# Altium integrated library Interface project.IntLib: 9 symbols
Pins are listed as number, name and electrical type; pins without a type are passive.

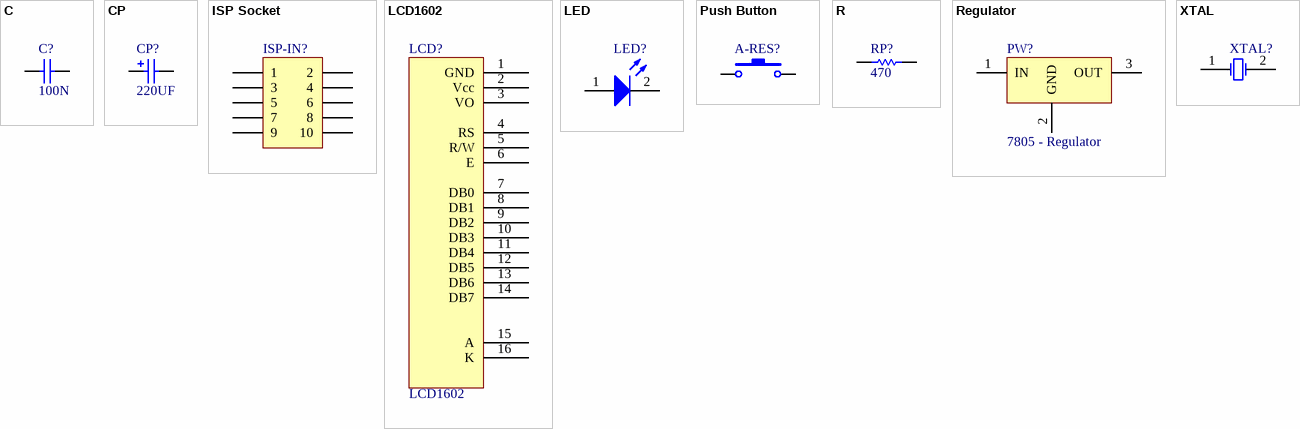
[diagram p0: symbols C to XTAL]

## C
designator C?, comment value 100N  (hidden comment: Disk Cap)
Capacitor; Manufacturer: Generic Components; Class: Passive; Published: 08/06/2000; Publisher: Altium Hobart Technology Centre; SubClass: Capacitor
footprint C.1
simulation model CAP (Capacitor)
signal-integrity model Cap
pins: 1, 2

## CP
designator CP?, comment value 220UF  (hidden comment: Electrolytic Cap)
Polarized Capacitor (Radial); Manufacturer: Generic Components; Class: Passive; Published: 08/06/2000; Publisher: Altium Hobart Technology Centre; SubClass: Capacitor
footprint PC.15
simulation model CAP (Capacitor)
signal-integrity model Cap Pol
pins: 1, 2

## ISP Socket
designator ISP-IN?, comment ISP  (value not drawn)
Manufacturer: Generic Components; Class: Connector; Bolt: RET; Kód: 53-02-64
footprint IDC10
signal-integrity model Connector
pins: 1, 2, 3, 4, 5, 6, 7, 8, 9, 10

## LCD1602
designator LCD?
footprint 162A
pins: 1 GND, 2 Vcc, 3 VO, 4 RS, 5 R/W, 6 E, 7 DB0, 8 DB1, 9 DB2, 10 DB3, 11 DB4, 12 DB5, 13 DB6, 14 DB7, 15 A, 16 K

## LED
designator LED?
Typical RED, GREEN, YELLOW, AMBER GaAs LED; Manufacturer: Generic Components; Class: Optoelectronic; Published: 08/06/2000; Publisher: Altium Hobart Technology Centre; SubClass: LED
footprint LED
pins: 1 A, 2 K

## Push Button
designator A-RES?
Switch; Manufacturer: Generic Components; Published: 1999
footprint C.2
pins: 1, 2

## R
designator RP?  value 470
Resistor; Manufacturer: Generic Components; Class: Passive; Published: 08/06/2000; Publisher: Altium Hobart Technology Centre; SubClass: Resistor
footprint R.4
simulation model RESISTOR (Resistor)
signal-integrity model Res1
footprint R.3
footprint Q
footprint QQQ
pins: 1, 2

## Regulator
designator PW?, comment 7805 - Regulator
Voltage Regulator
footprint 78XX
pins: 1 IN, 2 GND, 3 OUT

## XTAL
designator XTAL?  (value not drawn)
Crystal Oscillator; Published: 8-Jun-2000; LatestRevisionDate: 17-Jul-2002; LatestRevisionNote: Re-released for DXP Platform.; PackageReference: R38; Publisher: Altium Limited
footprint XTAL1
simulation model XTAL (Spice Subcircuit)
pins: 1 OSC1, 2 OSC2